# Altium footprint library AD_605_PcbLib1.PcbLib: 6 footprints
Each footprint in its own frame and in the unit in brackets; x right, y up, seen from the top. Pads: shape width x height; smd on the part's side, far side on the other; paste and mask are expansions set on the pad; w line width, h text height; cw(c..) or ccw(c..) is an arc to the next point about the centre after c.
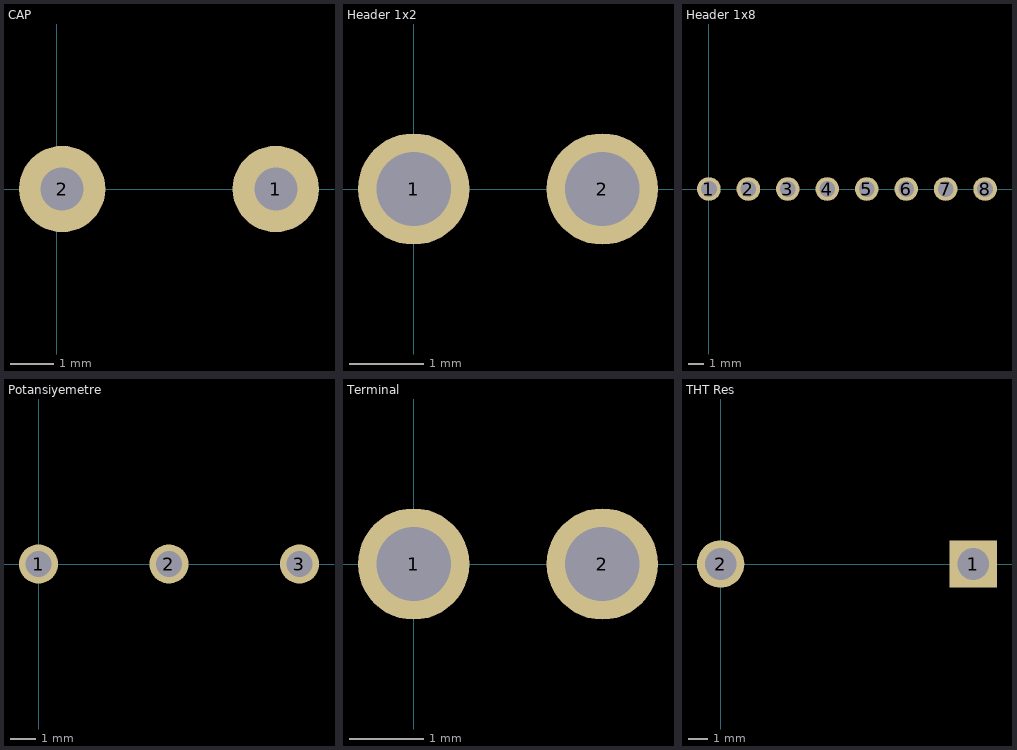
[diagram p0: the footprints below, top view; thin cyan lines are the x and y axes]

## CAP [mm]
pads (2):
  round 2 hole 1: 1(5.08,0) 2(0.127,0)
3D body "User Library-Disc_CAP d6x3_5_5mm.STEP": height 2.02, standoff -8.1, extent -0.46,-1.084 5.54,1.016

## Header 1x2 [mm]
pads (2):
  round 1.5 hole 1: 1(0,0) 2(2.54,0)
3D body "Pin Header 1x2 TH Pitch 2.54mm.stp": height 9.5, standoff -3.2, extent -1.261,-1.237 3.819,1.303

## Header 1x8 [mil]
pads (8):
  round 60 hole 40.16: 1(0,0) 2(100,0) 3(200,0) 4(300,0) 5(400,0) 6(500,0) 7(600,0) 8(700,0)
3D body "female_header_a-bl254-eg-g08d.stp": height 334.65, standoff -125.98, extent -55,-49.21 754.84,49.21

## Potansiyemetre [mil]
pads (3):
  round 60 hole 40.16: 1(0,0) 2(200.64,0) 3(401.44,0)
3D body "PotentiometerAssy.STEP": height 826.83, standoff -147.47, extent -114.52,-868.54 519.34,233.83

## Terminal [mm]
pads (2):
  round 1.5 hole 1: 1(0,0) 2(2.54,0)
3D body "DG308-2.54-02P-14-00AH.STEP": height 8.5, standoff -3.4, extent -1.495,-3.135 4.035,3.135

## THT Res [mm]
pads (2):
  rect 2.43x2.43 hole 1.62: 1(12.954,0)
  round 2.43 hole 1.62: 2(0,0)
3D body "User Library-Res50-Axial 0_5W-10K.STEP": height 5, standoff -4.38, extent -0.248,-1.845 13.202,1.905